# EAGLE library part RW-1106 (library thomas_library)
The RW-1106 is a ten-pole single-throw rotary switch from C&K Components.
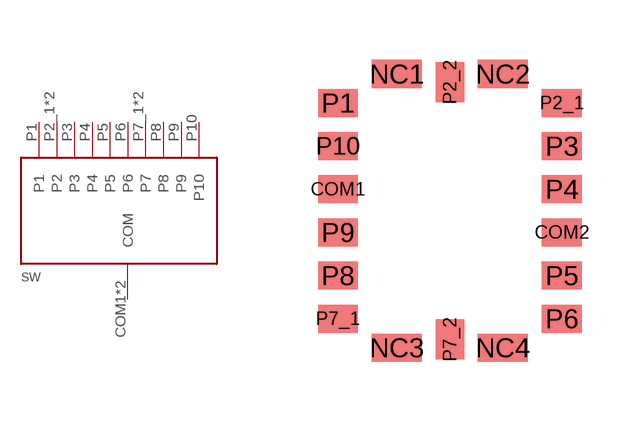
[diagram p16: symbol with the pads of RW-1106; footprint RW-1106]

Designator prefix SW

## RW-1106  [RW-1106]
COM1  COM
COM2  COM
P1  P1
P2_1  P2
P2_2  P2
P3  P3
P4  P4
P5  P5
P6  P6
P7_1  P7
P7_2  P7
P8  P8
P9  P9
P10  P10

## Footprint RW-1106 (pad centres in mm)
smd 1 x 0.7: COM1 -2.8,0.54; COM2 2.8,-0.54; P1 -2.8,2.7; P2_1 2.8,2.7; P3 2.8,1.62; P4 2.8,0.54; P5 2.8,-1.62; P6 2.8,-2.7; P7_1 -2.8,-2.7; P8 -2.8,-1.62; P9 -2.8,-0.54; P10 -2.8,1.62
smd 1.25 x 0.7: NC1 -1.325,3.425; NC2 1.325,3.425; NC3 -1.325,-3.425; NC4 1.325,-3.425
smd 0.7 x 1: P2_2 0,3.22; P7_2 0,-3.22